# Altium footprint library molex_connector_104238-0210 .PcbLib: 1 footprints
Each footprint in its own frame and in the unit in brackets; x right, y up, seen from the top. Pads: shape width x height; smd on the part's side, far side on the other; paste and mask are expansions set on the pad; w line width, h text height; cw(c..) or ccw(c..) is an arc to the next point about the centre after c.
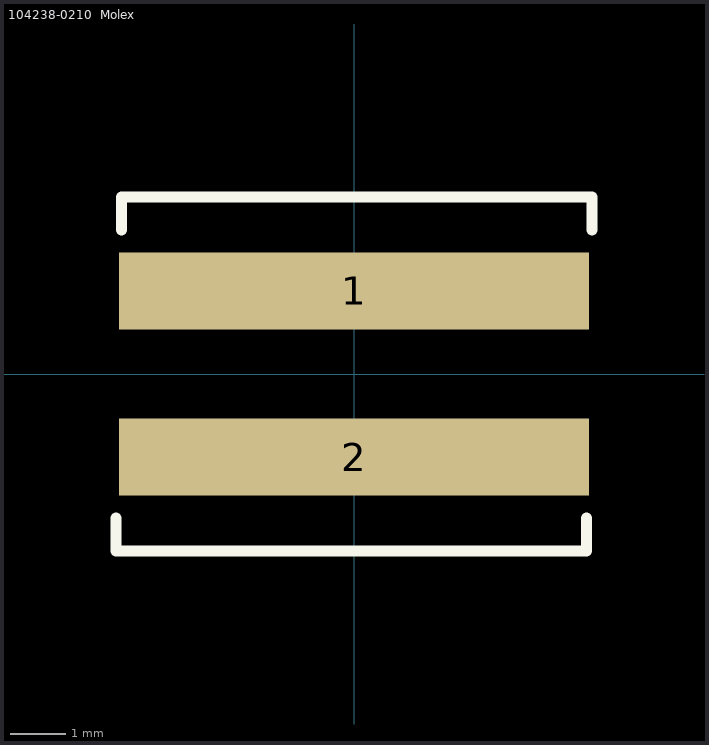
[diagram p0: the footprint, top view; thin cyan lines are the x and y axes]

## 104238-0210  Molex [mm] "Molex Mini-Lite-Trap Poke-in Connector"
height 2.65
pads (2):
  rect 8.5x1.4 smd: 1(0,1.5) 2(0,-1.5)
Top Overlay:
  lines w0.2: -4.3,-2.6 -4.3,-3.2 4.2,-3.2 4.2,-2.6 ; -4.2,2.6 -4.2,3.2 4.3,3.2 4.3,2.6
3D body "1042380210.stp": height 2.8, standoff 0.04, extent -4,-3 3.9,3
3D body: height 0.25, standoff 0, extent -3.5,-0.3 -3.5,-0.3